# EAGLE library part FT4232HLQFP (library DSDEagleLibrary)
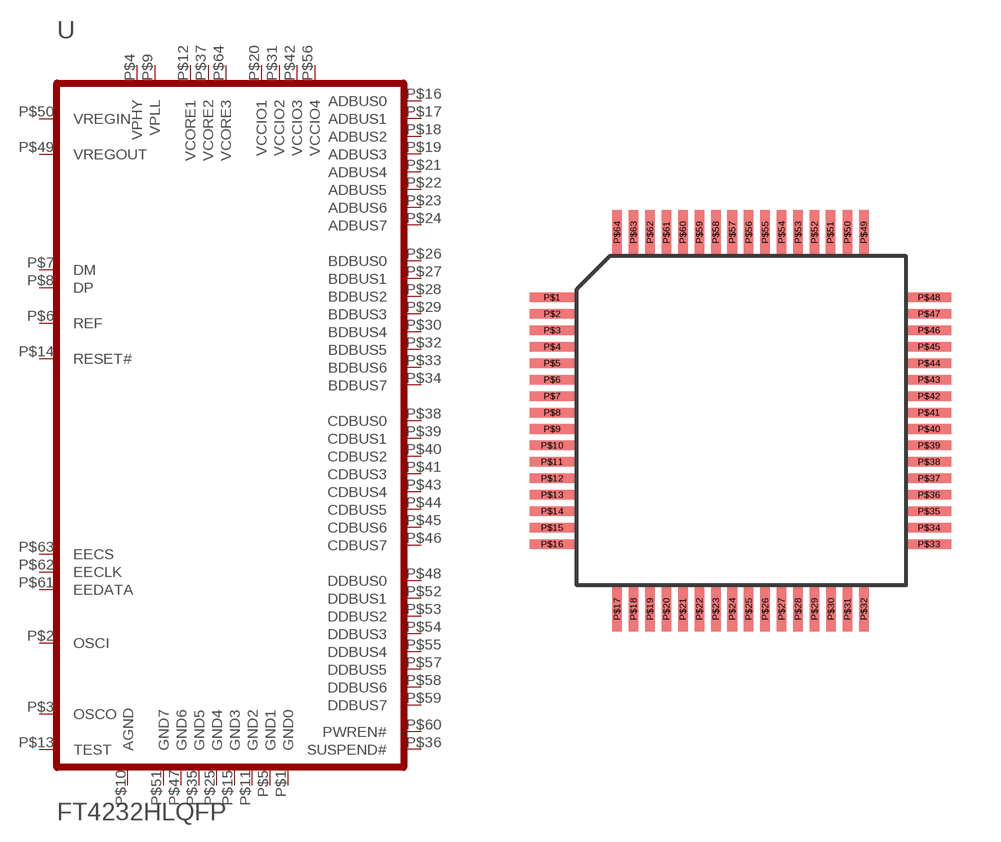
[diagram p56: symbol with the pads of LQFP; footprint LQFP]

Designator prefix U

## FT4232HLQFP  [LQFP]
P$1  GND0
P$2  OSCI
P$3  OSCO
P$4  VPHY
P$5  GND1
P$6  REF
P$7  DM
P$8  DP
P$9  VPLL
P$10  AGND
P$11  GND2
P$12  VCORE1
P$13  TEST
P$14  RESET#
P$15  GND3
P$16  ADBUS0
P$17  ADBUS1
P$18  ADBUS2
P$19  ADBUS3
P$20  VCCIO1
P$21  ADBUS4
P$22  ADBUS5
P$23  ADBUS6
P$24  ADBUS7
P$25  GND4
P$26  BDBUS0
P$27  BDBUS1
P$28  BDBUS2
P$29  BDBUS3
P$30  BDBUS4
P$31  VCCIO2
P$32  BDBUS5
P$33  BDBUS6
P$34  BDBUS7
P$35  GND5
P$36  SUSPEND#
P$37  VCORE2
P$38  CDBUS0
P$39  CDBUS1
P$40  CDBUS2
P$41  CDBUS3
P$42  VCCIO3
P$43  CDBUS4
P$44  CDBUS5
P$45  CDBUS6
P$46  CDBUS7
P$47  GND6
P$48  DDBUS0
P$49  VREGOUT
P$50  VREGIN
P$51  GND7
P$52  DDBUS1
P$53  DDBUS2
P$54  DDBUS3
P$55  DDBUS4
P$56  VCCIO4
P$57  DDBUS5
P$58  DDBUS6
P$59  DDBUS7
P$60  PWREN#
P$61  EEDATA
P$62  EECLK
P$63  EECS
P$64  VCORE3

## Footprint LQFP (pad centres in mm)
smd 1.35 x 0.29: P$1 0,0; P$2 0,-0.5; P$3 0,-1; P$4 0,-1.5; P$5 0,-2; P$6 0,-2.5; P$7 0,-3; P$8 0,-3.5; P$9 0,-4; P$10 0,-4.5; P$11 0,-5; P$12 0,-5.5; P$13 0,-6; P$14 0,-6.5; P$15 0,-7; P$16 0,-7.5; P$33 11.45,-7.5; P$34 11.45,-7; P$35 11.45,-6.5; P$36 11.45,-6; P$37 11.45,-5.5; P$38 11.45,-5; P$39 11.45,-4.5; P$40 11.45,-4; P$41 11.45,-3.5; P$42 11.45,-3; P$43 11.45,-2.5; P$44 11.45,-2; P$45 11.45,-1.5; P$46 11.45,-1; P$47 11.45,-0.5; P$48 11.45,0
smd 0.29 x 1.35: P$17 1.975,-9.475; P$18 2.475,-9.475; P$19 2.975,-9.475; P$20 3.475,-9.475; P$21 3.975,-9.475; P$22 4.475,-9.475; P$23 4.975,-9.475; P$24 5.475,-9.475; P$25 5.975,-9.475; P$26 6.475,-9.475; P$27 6.975,-9.475; P$28 7.475,-9.475; P$29 7.975,-9.475; P$30 8.475,-9.475; P$31 8.975,-9.475; P$32 9.475,-9.475; P$49 9.475,1.975; P$50 8.975,1.975; P$51 8.457,1.975; P$52 7.975,1.975; P$53 7.475,1.975; P$54 6.975,1.975; P$55 6.475,1.975; P$56 5.975,1.975; P$57 5.475,1.975; P$58 4.975,1.975; P$59 4.475,1.975; P$60 3.975,1.975; P$61 3.475,1.975; P$62 2.975,1.975; P$63 2.475,1.975; P$64 1.975,1.975